# Altium footprint library TSR1-2433.PcbLib: 1 footprints
Each footprint in its own frame and in the unit in brackets; x right, y up, seen from the top. Pads: shape width x height; smd on the part's side, far side on the other; paste and mask are expansions set on the pad; w line width, h text height; cw(c..) or ccw(c..) is an arc to the next point about the centre after c.
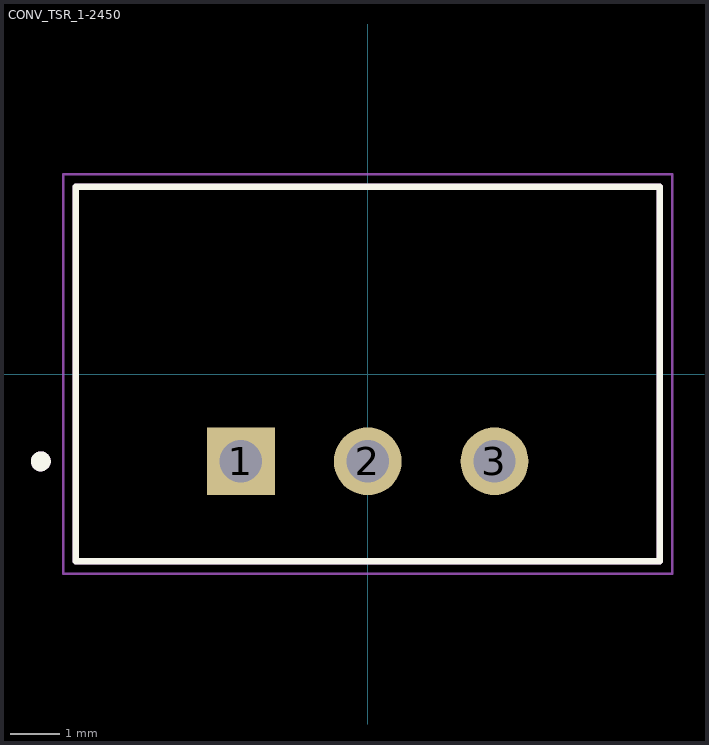
[diagram p0: the footprint, top view; thin cyan lines are the x and y axes]

## CONV_TSR_1-2450 [mm]
height 10.6
pads (3):
  rect 1.358x1.358 / inner round 1.358 / far side rect 1.358x1.358 hole 0.85: 1(-2.54,-1.75)
  round 1.358 hole 0.85: 2(0,-1.75) 3(2.54,-1.75)
Top Overlay:
  circle w0.2: c-6.55,-1.75 r0.1
  lines w0.127: -5.85,-3.75 5.85,-3.75 5.85,3.75 -5.85,3.75 -5.85,-3.75
Mechanical 13:
  circle w0.2: c-6.55,-1.75 r0.1
  lines w0.127: -5.85,-3.75 5.85,-3.75 5.85,3.75 -5.85,3.75 -5.85,-3.75
Mechanical 15:
  lines w0.05: -6.1,-4 -6.1,4 6.1,4 6.1,-4 -6.1,-4
3D body "step_temp.STEP": height 10.08, standoff -4.12, extent -5.85,-3.75 5.85,3.75